# Altium footprint library PCB - CONNECTOR - USB - HIROSE CX60-24S-UNIT.PCBLIB: 1 footprints
Each footprint in its own frame and in the unit in brackets; x right, y up, seen from the top. Pads: shape width x height; smd on the part's side, far side on the other; paste and mask are expansions set on the pad; w line width, h text height; cw(c..) or ccw(c..) is an arc to the next point about the centre after c.
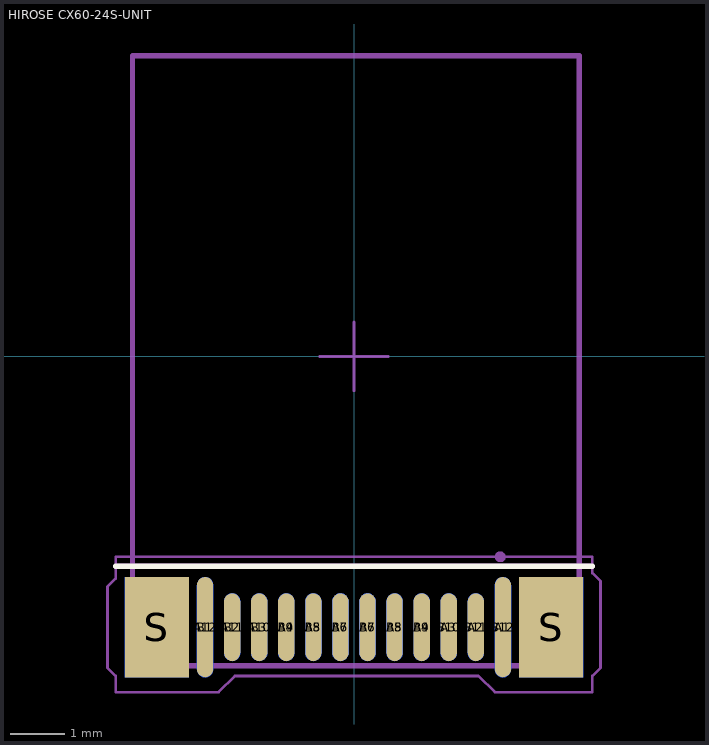
[diagram p0: the footprint, top view; thin cyan lines are the x and y axes]

## HIROSE CX60-24S-UNIT [mm]
height 2.4
pads (28):
  oval 0.3x1.85 smd: A1(2.75,-5) A12(-2.75,-5)
  oval 0.3x1.25 smd: A2(2.25,-5) A3(1.75,-5) A4(1.25,-5) A5(0.75,-5) A6(0.25,-5) A7(-0.25,-5) A8(-0.75,-5) A9(-1.25,-5) A10(-1.75,-5) A11(-2.25,-5)
  oval 0.3x1.85 smd far side: B1(-2.75,-5) B12(2.75,-5)
  oval 0.3x1.25 smd far side: B2(-2.25,-5) B3(-1.75,-5) B4(-1.25,-5) B5(-0.75,-5) B6(-0.25,-5) B7(0.25,-5) B8(0.75,-5) B9(1.25,-5) B10(1.75,-5) B11(2.25,-5)
  rect 1.18x1.85 smd: S(-3.64,-5) S(3.64,-5)
  rect 1.18x1.85 smd far side: S(-3.64,-5) S(3.64,-5)
Top Overlay:
  lines w0.1: -4.4,-3.875 4.4,-3.875
Mechanical 13:
  circle w0.1: c2.7,-3.7 r0.05
  lines w0.1: -4.4,-3.875 4.4,-3.875 ; -4.09,-5.715 -4.09,5.55 4.16,5.55 4.16,-5.715 -4.09,-5.715
Mechanical 15:
  lines w0.05: -0.635,0 0.635,0 ; 0,-0.635 0,0.635 ; -4.55,-5.75 -4.4,-5.9 -4.4,-6.2 -2.5,-6.2 -2.2,-5.9 2.3,-5.9 2.6,-6.2 4.4,-6.2 4.4,-5.9 4.55,-5.75 4.55,-4.15 4.4,-4 4.4,-3.7 -4.4,-3.7 -4.4,-4.1 -4.55,-4.25 -4.55,-5.75
3D body "Hirose - CX60-24S-UNIT.step": height 0.86, standoff -1.66, extent -4.11,-5.555 4.14,5.545